# Altium footprint library CONN(1.27mm, 2x3, 6-POS, TH).PcbLib: 1 footprints
Each footprint in its own frame and in the unit in brackets; x right, y up, seen from the top. Pads: shape width x height; smd on the part's side, far side on the other; paste and mask are expansions set on the pad; w line width, h text height; cw(c..) or ccw(c..) is an arc to the next point about the centre after c.
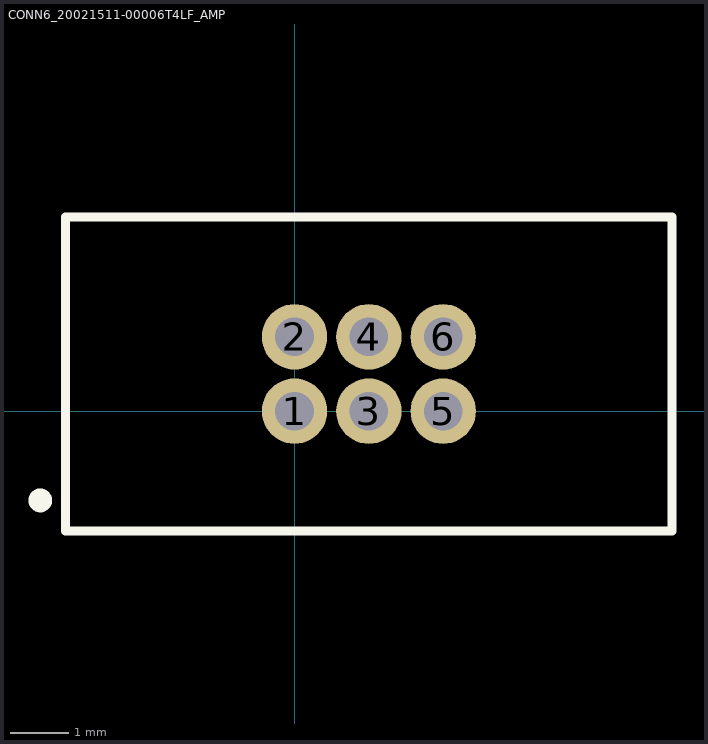
[diagram p0: the footprint, top view; thin cyan lines are the x and y axes]

## CONN6_20021511-00006T4LF_AMP [mil]
pads (6):
  round 44 / inner round 60 / far side round 44 hole 26 paste-99999 mask+0: 1(0,0) 2(0,50) 3(50,0) 4(50,50) 5(100,0) 6(100,50)
Top Overlay:
  circle w10: c-171,-60 r3
  lines w6: -154,-80.5 -154,130.5 254,130.5 254,-80.5 -154,-80.5
3D body "20021511-00006XXLFc.stp": height 212.6, standoff -90.55, extent -150,-75.39 248.03,125.39